# EAGLE library part CKSR-6NP (library CKSR_lib)
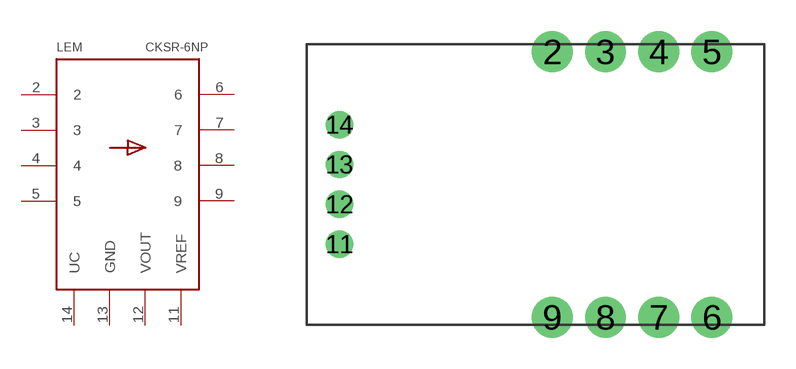
[diagram p0: symbol with the pads of CKSR; footprint CKSR]

Designator prefix LEM

## CKSR-6NP  [CKSR]
2  2
3  3
4  4
5  5
6  6
7  7
8  8
9  9
11  VREF
12  VOUT
13  GND
14  UC

## Footprint CKSR (pad centres in mm)
drill 1.3: 2 0,12.7; 3 2.54,12.7; 4 5.08,12.7; 5 7.62,12.7; 6 7.62,0; 7 5.08,0; 8 2.54,0; 9 0,0
drill 0.8: 11 -10.17,3.493; 12 -10.17,5.397; 13 -10.17,7.303; 14 -10.17,9.207